# Altium footprint library Misc.PcbLib: 150 footprints (part 3 of 10)
Each footprint in its own frame and in the unit in brackets; x right, y up, seen from the top. Pads: shape width x height; smd on the part's side, far side on the other; paste and mask are expansions set on the pad; w line width, h text height; cw(c..) or ccw(c..) is an arc to the next point about the centre after c.
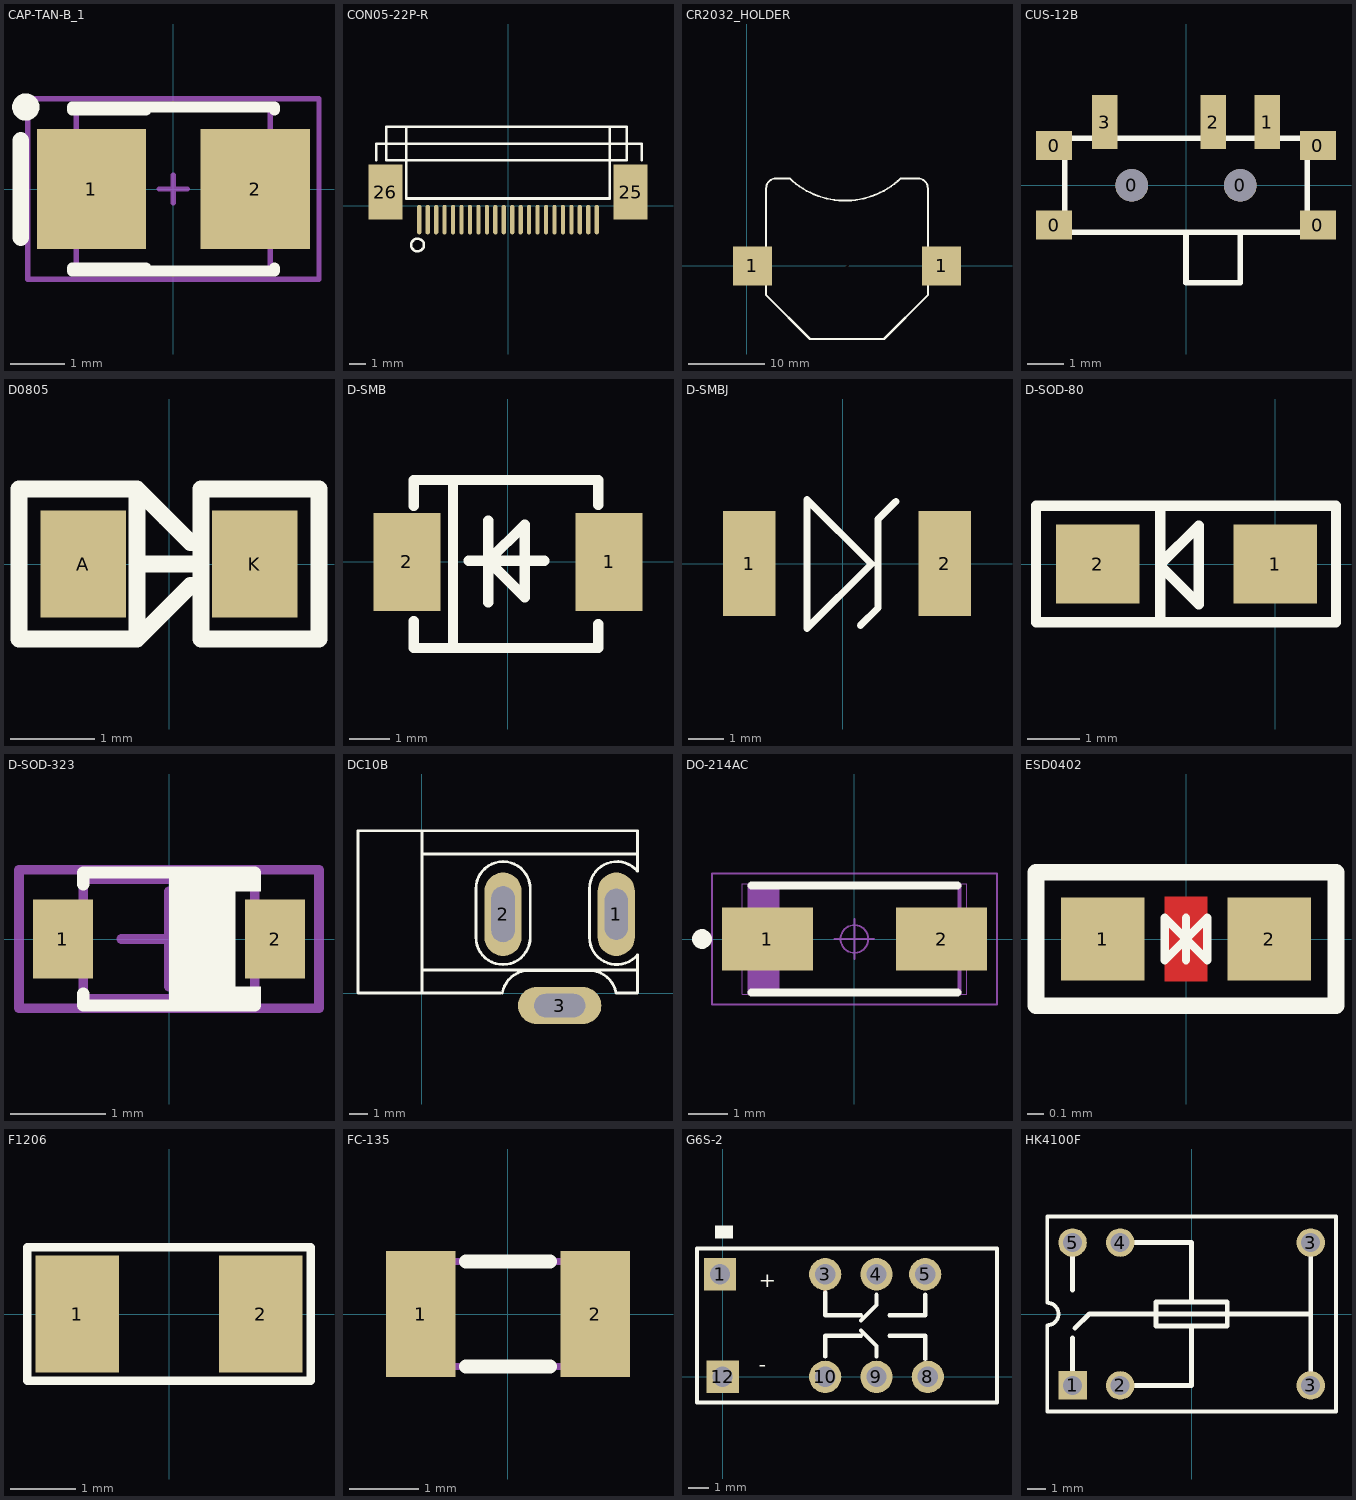
[diagram p2: the footprints below, top view; thin cyan lines are the x and y axes]

## CAP-TAN-B_1 [mm] "Capacitor, SM Tantalum; Body 3.5 x 2.8 mm (LxW typ)"
height 2.1
pads (2):
  rect 2x2.2 smd: 1(-1.5,0) 2(1.5,0)
Top Overlay:
  circle w0.25: c-2.7,1.5 r0.125
  lines w0.2: -1.85,-1.5 1.85,-1.5 1.85,-1.45 ; -1.85,-1.45 -0.5,-1.45 ; -1.85,1.45 -0.5,1.45 ; -1.85,1.5 1.85,1.5 1.85,1.45
  lines w0.305: -2.794,-0.889 -2.794,0.889
Mechanical 13:
  lines w0.1: -1.778,-1.524 -1.778,1.524 1.778,1.524 1.778,-1.524 -1.778,-1.524
Mechanical 15:
  lines w0.1: -0.254,0 0.254,0 ; 0,-0.254 0,0.254 ; -2.667,-1.651 2.667,-1.651 2.667,1.651 -2.667,1.651 -2.667,-1.651
3D body: height 1.9, standoff 0, extent -1.75,-1.403 1.75,1.397

## CON05-22P-R [mm]
pads (24):
  oval 0.25x1.75 smd: 1(-5.25,-0.813) 2(-4.75,-0.813) 3(-4.25,-0.813) 4(-3.75,-0.813) 5(-3.25,-0.813) 6(-2.75,-0.813) 7(-2.25,-0.813) 8(-1.75,-0.813) 9(-1.25,-0.813) 10(-0.75,-0.813) 11(-0.25,-0.813) 12(0.25,-0.813) 13(0.75,-0.813) 14(1.25,-0.813) 15(1.75,-0.813) 16(2.25,-0.813) 17(2.75,-0.813) 18(3.25,-0.813) 19(3.75,-0.813) 20(4.25,-0.813) 21(4.75,-0.813) 22(5.25,-0.813)
  rect 2x3.25 smd: 25(7.25,0.813) 26(-7.25,0.813)
Top Overlay:
  circle w0.15: c-5.35,-2.312 r0.375
  lines w0.15: -7.785,2.688 -7.785,3.688 7.917,3.688 7.917,2.688 ; -7.2,2.688 -7.2,4.687 7.028,4.687 7.028,2.688 -7.2,2.688 ; -6.03,0.437 -6.03,4.687 6.012,4.687 6.012,0.437 -6.03,0.437

## CR2032_HOLDER [mm] "CR2032 - SMD mount coin cell bat holder"
height 3
pads (3):
  rect 5.08x5.08 smd: 1(0.731,0) 1(25.431,0)
  round 18 on Top Solder paste+0: 2(13.081,0)
Top Overlay:
  lines w0.254: 8.636,-9.525 17.907,-9.525 23.622,-3.81 23.622,10.16 ccw(c22.352,10.16) 22.352,11.43 20.066,11.43 ; 8.89,-9.525 8.255,-9.525 2.54,-3.81 2.54,10.16 cw(c3.81,10.16) 3.81,11.43 5.588,11.43 ccw(c12.848,19.072) 20.108,11.43
3D body: height 3.96, standoff 0, extent -2.286,-10.274 28.448,9.779

## CUS-12B [mm] "Slide Switches - SPDT, SMD, ON-ON"
height 1.4
pads (9):
  rect 1x0.8 smd: 0(-3.65,-1.1) 0(-3.65,1.1) 0(3.65,-1.1) 0(3.65,1.1)
  round 0.9 hole 0.9: 0(-1.5,0) 0(1.5,0)
  rect 0.7x1.5 smd: 1(2.25,1.75) 2(0.75,1.75) 3(-2.25,1.75)
Top Overlay:
  lines w0.152: 0,-1.3 0,-2.7 1.5,-2.7 1.5,-1.3 ; -3.35,-1.3 -3.35,1.3 3.35,1.3 3.35,-1.3 -3.35,-1.3
3D body: height 1.4, standoff 1.2, extent -3.15,0.9 -2.75,1.4
3D body: height 0.65, standoff 0, extent -3.35,0.9 -3.15,1.3
3D body: height 1.3, standoff 0.7, extent -3.3,0.9 -3.15,1.4
3D body: height 1.4, standoff 1.2, extent -3.15,-1.3 -2.75,-0.8
3D body: height 0.65, standoff 0, extent -3.35,-1.3 -3.15,-0.9
3D body: height 1.3, standoff 0.7, extent -3.3,-1.3 -3.15,-0.8
3D body: height 1.4, standoff 1.2, extent 2.75,-1.4 3.15,-0.9
3D body: height 0.65, standoff 0, extent 3.15,-1.3 3.35,-0.9
3D body: height 1.3, standoff 0.7, extent 3.15,-1.4 3.3,-0.9
3D body: height 1.3, standoff 0.7, extent 3.15,0.8 3.3,1.3
3D body: height 1, standoff 0.65, extent -3.35,-0.75 -3.15,0.75
3D body: height 1.4, standoff 0.6, extent -3.35,-0.75 -2.553,0.75
3D body: height 0.65, standoff 0.2, extent 3.15,-0.9 3.35,0.9
3D body: height 1.4, standoff 0.6, extent 2.553,-0.75 3.35,0.75
3D body: height 0.65, standoff 0.2, extent -3.35,-0.9 -3.15,0.9
3D body: height 1, standoff 0.65, extent 3.15,-0.75 3.35,0.75
3D body: height 0.2, standoff 0, extent -3.85,0.9 -3.35,1.3
3D body: height 0.2, standoff 0, extent -3.85,-1.3 -3.35,-0.9
3D body: height 0.2, standoff 0, extent 3.35,-1.3 3.85,-0.9
3D body: height 0.2, standoff 0, extent 3.35,0.9 3.85,1.3
3D body: height 0.65, standoff 0, extent -3.35,0.9 -3.15,1.3
3D body: height 0.65, standoff 0, extent -3.35,-1.3 -3.15,-0.9
3D body: height 0.65, standoff 0, extent 3.15,-1.3 3.35,-0.9
3D body: height 0.65, standoff 0, extent 3.15,0.9 3.35,1.3
3D body: height 1.4, standoff 1.2, extent 2.75,0.8 3.15,1.3
3D body: height 0.15, standoff -0.65, extent -1.9,-0.399 -1.103,0.399
3D body: height 0.15, standoff -0.65, extent 1.1,-0.399 1.897,0.399
3D body: height 1.2, standoff 0.8, extent -1.95,-1 1.95,-0.9
3D body: height 1.2, standoff 0.8, extent 0,-2.75 1.5,-1
3D body: height 1.2, standoff 0.8, extent -3.15,-1.3 3.15,1.3
3D body: height 0.15, standoff 0, extent 2.05,1.3 2.45,2.2
3D body: height 0.15, standoff 0, extent 0.55,1.3 0.95,2.2
3D body: height 1.4, standoff 1.2, extent -2.95,-1.3 2.95,1.3
3D body: height 0.15, standoff 0, extent -2.45,1.3 -2.05,2.2
3D body: height 0.8, standoff 0, extent -3.15,-1.3 3.15,1.3

## D0805 [mil]
height 153.54
pads (2):
  rect 40x50 smd: A(-40,0) K(40,0)
Top Overlay:
  lines w7.87: -15,0 10,0 ; -8.91,28.91 -8.48,28.48 ; -1.93,21.93 -1.81,21.81 ; 10,-10 -15,-35 ; 10,10 -15,35 ; 15,-10 15,5 15,0 ; -15,-35 -15,35 ; -15,-35 -70,-35 -70,35 -15,35 ; 15,-35 15,35 70,35 70,-35 15,-35
3D body: height 33.45, standoff 0.23, extent -40.2,-16.84 40.99,18.84

## D-SMB [mm] "DO-214AA"
pads (2):
  rect 1.65x2.4 smd: 1(2.475,0) 2(-2.475,0)
Top Overlay:
  lines w0.254: -2.311,-1.448 -2.311,-2.108 2.21,-2.108 2.21,-1.524 ; -2.311,1.372 -2.311,2.007 2.21,2.007 2.21,1.397 ; -1.346,-2.032 -1.346,2.007 ; -0.965,0.025 0.889,0.025 ; -0.483,-0.991 -0.483,1.016 ; -0.483,0.025 0.406,-0.864 0.406,0.914 -0.483,0.025
3D body: height 2.45, standoff 0.03, extent -2.75,-1.975 2.75,1.925

## D-SMBJ [mm]
pads (2):
  rect 1.5x3 smd: 1(-2.667,0) 2(2.921,0)
Top Overlay:
  lines w0.203: 0.508,-1.778 1.016,-1.27 1.016,1.27 1.524,1.778 ; -1.016,-1.854 -1.016,1.829 0.826,-0.013 -1.016,-1.854

## D-SOD-80 [mm]
pads (2):
  rect 1.6x1.524 smd: 1(0,0) 2(-3.4,0)
Top Overlay:
  lines w0.2: -4.588,1.092 -4.588,-1.118 1.168,-1.118 1.168,1.067 ; -4.588,1.118 1.168,1.118 ; -2.2,-1.118 -2.2,1.118 ; -2.2,-0.035 -1.463,-0.772 -1.463,0.737 -2.2,0 -2.2,-0.035
3D body: height 1.5, standoff 0, extent -3.528,-0.75 -0.028,0.75

## D-SOD-323 [mm] "SOD-323(0805) Package"
height 1.15
pads (2):
  rect 0.63x0.83 smd: 1(-1.115,0) 2(1.115,0)
Top Overlay:
  rectangle: 0,-0.7 0.7,0.7
  rectangle: 0.413,0.5 0.963,0.7
  rectangle: 0.413,-0.7 0.963,-0.5
  lines w0.127: -0.9,-0.575 -0.9,-0.7 0.9,-0.7 0.9,-0.575 ; -0.9,0.575 -0.9,0.7 0.9,0.7 0.9,0.575
Mechanical 13:
  lines w0.1: -0.9,-0.625 -0.9,0.625 0.9,0.625 0.9,-0.625 -0.9,-0.625
Mechanical 15:
  lines w0.1: -0.5,0 0.5,0 ; 0,-0.5 0,0.5 ; -1.575,-0.725 1.575,-0.725 1.575,0.725 -1.575,0.725 -1.575,-0.725
3D body: height 1.1, standoff 0, extent -1.35,-0.625 1.35,0.625

## DC10B [mil]
pads (3):
  oval 80x180 hole 50 slot 110 at 90 deg: 1(419.09,170)
  oval 80x180 hole 50 slot 120 at 90 deg: 2(175,170)
  oval 180x80 hole 50 slot 110 at 0 deg: 3(297.05,-26.85)
Top Overlay:
  lines w6: 0,50 465,50 ; 0,300 460.13,300 464.25,300 ; 5,350 -15,350 -137.8,350 -137.8,0 0,0 ; 169,0 0,0 ; 173.37,0.16 cw(c231,-10) 231,48.52 361,48.52 cw(c361,-10) 418.63,0.16 ; 420,0 465,0 465,80 ; 464.83,82.38 cw(c420,120) 361.48,120 361.48,225 cw(c420,225) 464.83,262.62 465,350 0,350 0,0 ; 233.52,225 ccw(c175,225) 116.48,225 116.48,120 ccw(c175,120) 233.52,120 233.52,225 ; 233.52,225 233.52,225

## DO-214AC [mm]
pads (2):
  rect 2.3x1.6 smd: 1(-2.2,0) 2(2.2,0)
Top Overlay:
  circle w0.25: c-3.85,0 r0.125
  lines w0.2: -2.6,-1.35 2.6,-1.35 ; -2.6,1.35 2.6,1.35
Mechanical 15:
  lines w0.1: -2.548,-1.335 -2.548,1.335 ; -2.448,-1.335 -2.448,1.335 ; -2.348,-1.335 -2.348,1.335 ; -2.248,-1.335 -2.248,1.335 ; -2.148,-1.335 -2.148,1.335 ; -2.047,-1.335 -2.047,1.335 ; -1.948,-1.335 -1.948,1.335 ; -2.648,-1.335 2.648,-1.335 2.648,1.335 -2.648,1.335 -2.648,-1.335
Mechanical 16:
  circle w0.05: c0,0 r0.35
  lines w0.001: -2.83,-1.4 2.83,-1.4 2.83,1.4 -2.83,1.4 -2.83,-1.4
  lines w0.05: -0.5,0 0.5,0 ; 0,-0.5 0,0.5 ; -3.6,-1.65 3.6,-1.65 3.6,1.65 -3.6,1.65 -3.6,-1.65

## ESD0402 [mm]
pads (2):
  rect 0.5x0.5 smd: 1(-0.5,0) 2(0.5,0)
Top Layer:
  pour cut-out: -0.127,-0.254 -0.127,0.254 0.127,0.254 0.127,-0.254
Top Overlay:
  lines w0.05: 0,-0.127 0,0.127 ; 0,0 -0.127,0.127 -0.127,-0.127 0,0 ; 0,0 0.127,0.127 0.127,-0.127 0,0
  lines w0.1: -0.9,-0.4 -0.9,0.4 0.9,0.4 0.9,-0.4 -0.9,-0.4

## F1206 [mil] "F1206"
pads (2):
  rect 50x70 smd: 1(-55,0) 2(55,0)
Top Overlay:
  lines w5: -85,-40 85,-40 85,40 -85,40 -85,-40
Mechanical 2:
Mechanical 4:

## FC-135 [mm] "EPSON TOYOCOM - FC-135 32.768KHZ ?0PPM,9.0PF - CRYSTAL, SM, WATCH"
height 0.8
pads (2):
  rect 1x1.8 smd: 1(-1.25,0) 2(1.25,0)
Top Overlay:
  lines w0.2: -0.6,-0.75 0.6,-0.75 ; -0.6,0.75 0.6,0.75
Mechanical 3:
  lines w0.1: -1.6,-0.55 cw(c-1.6,-0.75) -1.4,-0.75 1.4,-0.75 cw(c1.6,-0.75) 1.6,-0.55 1.6,0.55 cw(c1.6,0.75) 1.4,0.75 -1.4,0.75 cw(c-1.6,0.75) -1.6,0.55 -1.6,-0.55
3D body: height 0.81, standoff 0.15, extent -1.2,-0.6 1.2,0.6
3D body: height 0.81, standoff 0, extent -1.6,-0.75 1.6,0.75

## G6S-2 [mm]
pads (8):
  rect 1.6x1.6 hole 1: 1(-0.127,5.08) 12(0,0)
  round 1.6 hole 1: 3(5.08,5.08) 4(7.62,5.08) 5(10.033,5.08) 8(10.16,0) 9(7.62,0) 10(5.08,0)
Top Overlay:
  rectangle: -0.381,6.858 0.508,7.493
  lines w0.203: 5.08,1.016 5.08,2.032 6.858,2.032 ; 5.08,4.191 5.08,3.048 6.858,3.048 ; 6.858,2.286 7.62,1.524 7.62,1.016 ; 6.858,2.794 7.62,3.556 7.62,4.064 ; 8.255,2.032 10.033,2.032 10.033,0.889 ; 8.255,3.048 10.033,3.048 10.033,4.064 ; -1.27,-1.27 -1.27,6.35 13.589,6.35 13.589,-1.27 -1.27,-1.27
  text "-" at 1.778,0.254 h0.76
  text "+" at 1.778,4.445 h0.76
3D body: height 2.65, standoff 0, extent -1.313,-1.21 13.589,6.29

## HK4100F [mil]
pads (6):
  rect 60x60 hole 40: 1(-250,-150)
  round 60 hole 40: 2(-150,-150) 3(250,-150) 3(250,150) 4(-150,150) 5(-250,150)
Top Overlay:
  lines w8: -303.15,-204.72 -303.15,-23.62 ccw(c-303.15,0) -303.15,23.62 -303.15,204.72 303.15,204.72 303.15,-204.72 -303.15,-204.72
  lines w10: -250,-150 -250,-50 ; -250,50 -250,150 ; -245,-30 -215,0 250,0 ; -150,-150 0,-150 0,-25 ; -150,150 0,150 0,25 ; 250,-150 250,150 ; -75,-25 75,-25 75,25 -75,25 -75,-25